# Altium integrated library STM32WB55RGV7.IntLib: 5 symbols
Pins are listed as number, name and electrical type; pins without a type are passive.

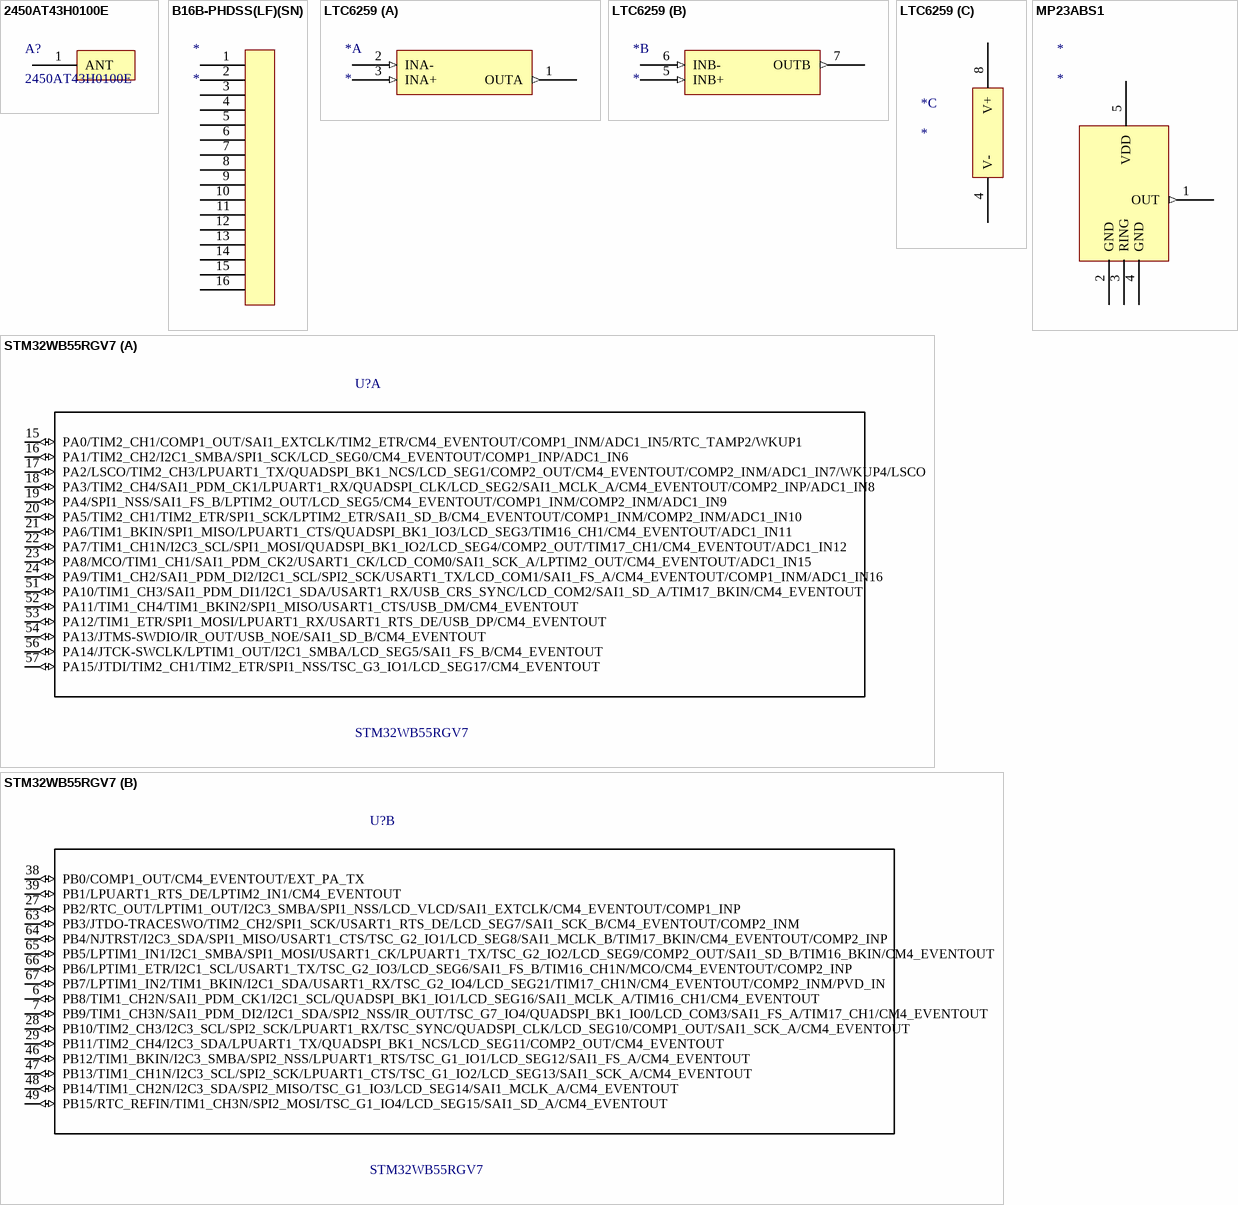
[diagram p0: symbols 2450AT43H0100E to STM32WB55RGV7]

## 2450AT43H0100E
designator A?
footprint 2450AT43H0100E (Antennas 2400-2500 MHz)
pins: 1 ANT

## B16B-PHDSS(LF)(SN)
designator *
footprint B16B-PHDSS(LF)(SN) - duplicate
pins: 1, 2, 3, 4, 5, 6, 7, 8, 9, 10, 11, 12, 13, 14, 15, 16

## LTC6259
designator *
footprint SOT23-8
part A pins: 1 OUTA (out), 2 INA- (in), 3 INA+ (in)
part B pins: 5 INB+ (in), 6 INB- (in), 7 OUTB (out)
part C pins: 4 V- (power), 8 V+ (power)

## MP23ABS1
designator *
footprint MP23ABS1
pins: 1 OUT (out), 2 GND (power), 3 RING (power), 4 GND (power), 5 VDD (power)

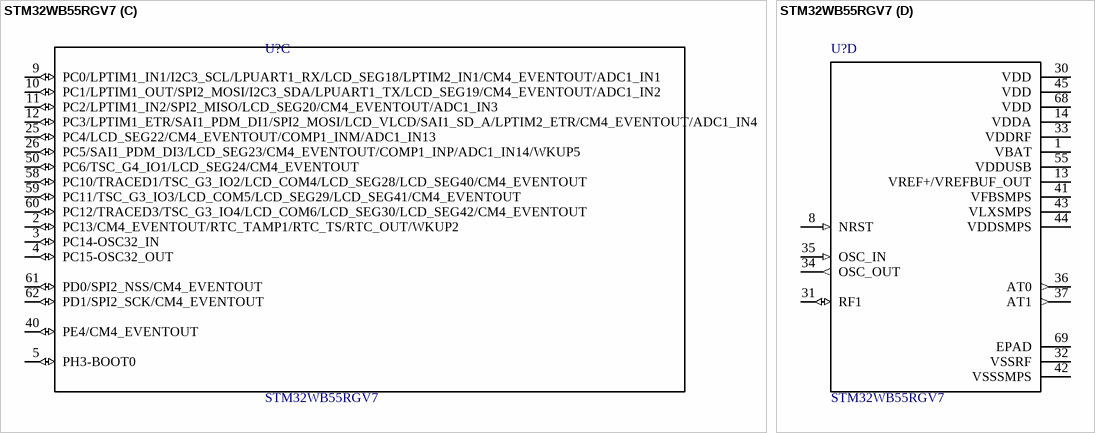
[diagram p1: symbol STM32WB55RGV7]

## STM32WB55RGV7
designator U?
Multiprotocol wireless 32-bit MCU Arm-based Cortex-M4; MF: STMicroelectronics; MP: STM32WB55RGV7; Price: None; Package: None; Availability: Unavailable; SnapEDA_Link: https://www.snapeda.com/parts/STM32WB55RGV7/STMicroelectronics/view-part/?ref=snap; Value: *
footprint *QFN40P800X800X100-69N
part A pins: 15 PA0/TIM2_CH1/COMP1_OUT/SAI1_EXTCLK/TIM2_ETR/CM4_EVENTOUT/COMP1_INM/ADC1_IN5/RTC_TAMP2/WKUP1 (io), 16 PA1/TIM2_CH2/I2C1_SMBA/SPI1_SCK/LCD_SEG0/CM4_EVENTOUT/COMP1_INP/ADC1_IN6 (io), 17 PA2/LSCO/TIM2_CH3/LPUART1_TX/QUADSPI_BK1_NCS/LCD_SEG1/COMP2_OUT/CM4_EVENTOUT/COMP2_INM/ADC1_IN7/WKUP4/LSCO (io), 18 PA3/TIM2_CH4/SAI1_PDM_CK1/LPUART1_RX/QUADSPI_CLK/LCD_SEG2/SAI1_MCLK_A/CM4_EVENTOUT/COMP2_INP/ADC1_IN8 (io), 19 PA4/SPI1_NSS/SAI1_FS_B/LPTIM2_OUT/LCD_SEG5/CM4_EVENTOUT/COMP1_INM/COMP2_INM/ADC1_IN9 (io), 20 PA5/TIM2_CH1/TIM2_ETR/SPI1_SCK/LPTIM2_ETR/SAI1_SD_B/CM4_EVENTOUT/COMP1_INM/COMP2_INM/ADC1_IN10 (io), 21 PA6/TIM1_BKIN/SPI1_MISO/LPUART1_CTS/QUADSPI_BK1_IO3/LCD_SEG3/TIM16_CH1/CM4_EVENTOUT/ADC1_IN11 (io), 22 PA7/TIM1_CH1N/I2C3_SCL/SPI1_MOSI/QUADSPI_BK1_IO2/LCD_SEG4/COMP2_OUT/TIM17_CH1/CM4_EVENTOUT/ADC1_IN12 (io), 23 PA8/MCO/TIM1_CH1/SAI1_PDM_CK2/USART1_CK/LCD_COM0/SAI1_SCK_A/LPTIM2_OUT/CM4_EVENTOUT/ADC1_IN15 (io), 24 PA9/TIM1_CH2/SAI1_PDM_DI2/I2C1_SCL/SPI2_SCK/USART1_TX/LCD_COM1/SAI1_FS_A/CM4_EVENTOUT/COMP1_INM/ADC1_IN16 (io), 51 PA10/TIM1_CH3/SAI1_PDM_DI1/I2C1_SDA/USART1_RX/USB_CRS_SYNC/LCD_COM2/SAI1_SD_A/TIM17_BKIN/CM4_EVENTOUT (io), 52 PA11/TIM1_CH4/TIM1_BKIN2/SPI1_MISO/USART1_CTS/USB_DM/CM4_EVENTOUT (io), 53 PA12/TIM1_ETR/SPI1_MOSI/LPUART1_RX/USART1_RTS_DE/USB_DP/CM4_EVENTOUT (io), 54 PA13/JTMS-SWDIO/IR_OUT/USB_NOE/SAI1_SD_B/CM4_EVENTOUT (io), 56 PA14/JTCK-SWCLK/LPTIM1_OUT/I2C1_SMBA/LCD_SEG5/SAI1_FS_B/CM4_EVENTOUT (io), 57 PA15/JTDI/TIM2_CH1/TIM2_ETR/SPI1_NSS/TSC_G3_IO1/LCD_SEG17/CM4_EVENTOUT (io)
part B pins: 6 PB8/TIM1_CH2N/SAI1_PDM_CK1/I2C1_SCL/QUADSPI_BK1_IO1/LCD_SEG16/SAI1_MCLK_A/TIM16_CH1/CM4_EVENTOUT (io), 7 PB9/TIM1_CH3N/SAI1_PDM_DI2/I2C1_SDA/SPI2_NSS/IR_OUT/TSC_G7_IO4/QUADSPI_BK1_IO0/LCD_COM3/SAI1_FS_A/TIM17_CH1/CM4_EVENTOUT (io), 27 PB2/RTC_OUT/LPTIM1_OUT/I2C3_SMBA/SPI1_NSS/LCD_VLCD/SAI1_EXTCLK/CM4_EVENTOUT/COMP1_INP (io), 28 PB10/TIM2_CH3/I2C3_SCL/SPI2_SCK/LPUART1_RX/TSC_SYNC/QUADSPI_CLK/LCD_SEG10/COMP1_OUT/SAI1_SCK_A/CM4_EVENTOUT (io), 29 PB11/TIM2_CH4/I2C3_SDA/LPUART1_TX/QUADSPI_BK1_NCS/LCD_SEG11/COMP2_OUT/CM4_EVENTOUT (io), 38 PB0/COMP1_OUT/CM4_EVENTOUT/EXT_PA_TX (io), 39 PB1/LPUART1_RTS_DE/LPTIM2_IN1/CM4_EVENTOUT (io), 46 PB12/TIM1_BKIN/I2C3_SMBA/SPI2_NSS/LPUART1_RTS/TSC_G1_IO1/LCD_SEG12/SAI1_FS_A/CM4_EVENTOUT (io), 47 PB13/TIM1_CH1N/I2C3_SCL/SPI2_SCK/LPUART1_CTS/TSC_G1_IO2/LCD_SEG13/SAI1_SCK_A/CM4_EVENTOUT (io), 48 PB14/TIM1_CH2N/I2C3_SDA/SPI2_MISO/TSC_G1_IO3/LCD_SEG14/SAI1_MCLK_A/CM4_EVENTOUT (io), 49 PB15/RTC_REFIN/TIM1_CH3N/SPI2_MOSI/TSC_G1_IO4/LCD_SEG15/SAI1_SD_A/CM4_EVENTOUT (io), 63 PB3/JTDO-TRACESWO/TIM2_CH2/SPI1_SCK/USART1_RTS_DE/LCD_SEG7/SAI1_SCK_B/CM4_EVENTOUT/COMP2_INM (io), 64 PB4/NJTRST/I2C3_SDA/SPI1_MISO/USART1_CTS/TSC_G2_IO1/LCD_SEG8/SAI1_MCLK_B/TIM17_BKIN/CM4_EVENTOUT/COMP2_INP (io), 65 PB5/LPTIM1_IN1/I2C1_SMBA/SPI1_MOSI/USART1_CK/LPUART1_TX/TSC_G2_IO2/LCD_SEG9/COMP2_OUT/SAI1_SD_B/TIM16_BKIN/CM4_EVENTOUT (io), 66 PB6/LPTIM1_ETR/I2C1_SCL/USART1_TX/TSC_G2_IO3/LCD_SEG6/SAI1_FS_B/TIM16_CH1N/MCO/CM4_EVENTOUT/COMP2_INP (io), 67 PB7/LPTIM1_IN2/TIM1_BKIN/I2C1_SDA/USART1_RX/TSC_G2_IO4/LCD_SEG21/TIM17_CH1N/CM4_EVENTOUT/COMP2_INM/PVD_IN (io)
part C pins: 2 PC13/CM4_EVENTOUT/RTC_TAMP1/RTC_TS/RTC_OUT/WKUP2 (io), 3 PC14-OSC32_IN (io), 4 PC15-OSC32_OUT (io), 5 PH3-BOOT0 (io), 9 PC0/LPTIM1_IN1/I2C3_SCL/LPUART1_RX/LCD_SEG18/LPTIM2_IN1/CM4_EVENTOUT/ADC1_IN1 (io), 10 PC1/LPTIM1_OUT/SPI2_MOSI/I2C3_SDA/LPUART1_TX/LCD_SEG19/CM4_EVENTOUT/ADC1_IN2 (io), 11 PC2/LPTIM1_IN2/SPI2_MISO/LCD_SEG20/CM4_EVENTOUT/ADC1_IN3 (io), 12 PC3/LPTIM1_ETR/SAI1_PDM_DI1/SPI2_MOSI/LCD_VLCD/SAI1_SD_A/LPTIM2_ETR/CM4_EVENTOUT/ADC1_IN4 (io), 25 PC4/LCD_SEG22/CM4_EVENTOUT/COMP1_INM/ADC1_IN13 (io), 26 PC5/SAI1_PDM_DI3/LCD_SEG23/CM4_EVENTOUT/COMP1_INP/ADC1_IN14/WKUP5 (io), 40 PE4/CM4_EVENTOUT (io), 50 PC6/TSC_G4_IO1/LCD_SEG24/CM4_EVENTOUT (io), 58 PC10/TRACED1/TSC_G3_IO2/LCD_COM4/LCD_SEG28/LCD_SEG40/CM4_EVENTOUT (io), 59 PC11/TSC_G3_IO3/LCD_COM5/LCD_SEG29/LCD_SEG41/CM4_EVENTOUT (io), 60 PC12/TRACED3/TSC_G3_IO4/LCD_COM6/LCD_SEG30/LCD_SEG42/CM4_EVENTOUT (io), 61 PD0/SPI2_NSS/CM4_EVENTOUT (io), 62 PD1/SPI2_SCK/CM4_EVENTOUT (io)
part D pins: 1 VBAT (power), 8 NRST (in), 13 VREF+/VREFBUF_OUT (power), 14 VDDA (power), 30 VDD (power), 31 RF1 (io), 32 VSSRF (power), 33 VDDRF (power), 34 OSC_OUT (out), 35 OSC_IN (in), 36 AT0 (out), 37 AT1 (out), 41 VFBSMPS (power), 42 VSSSMPS (power), 43 VLXSMPS (power), 44 VDDSMPS (power), 45 VDD (power), 55 VDDUSB (power), 68 VDD (power), 69 EPAD (power)